# EAGLE library part VOCORE_SHIELD (library Vocore)
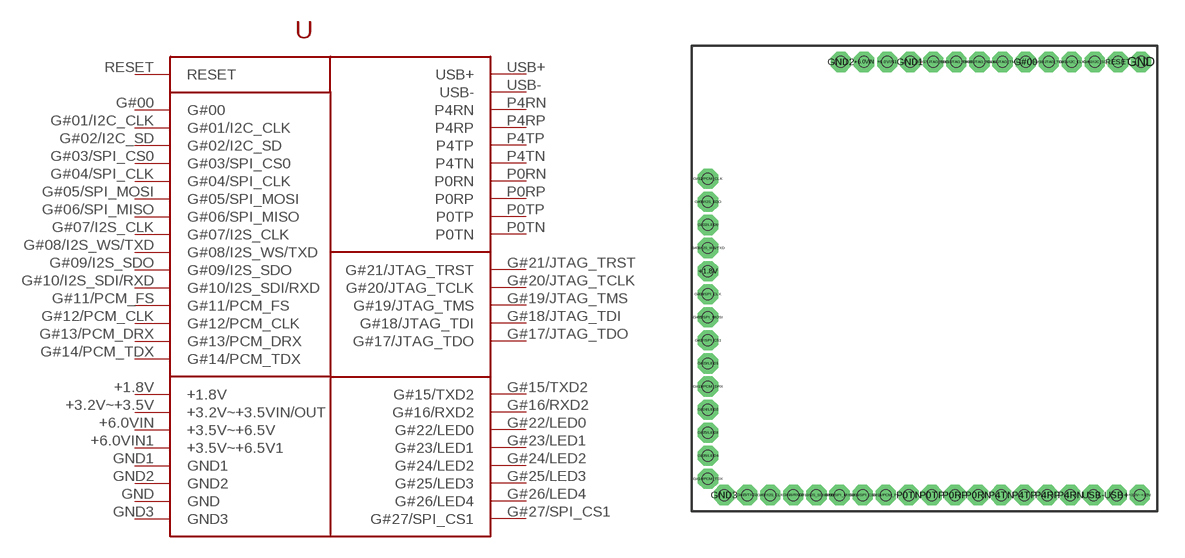
[diagram p0: symbol with the pads of VOCORE_DOC_CUSTOM; footprint VOCORE_DOC_CUSTOM]

Designator prefix -

## VOCORE_SHIELD  [VOCORE_DOC_CUSTOM]
+1.8V  +1.8V
+3.2V~+3.5V  +3.2V~+3.5VIN/OUT
+6.0VIN  +3.5V~+6.5V
+6.0VIN1  +3.5V~+6.5V1
G#00  G#00
G#01/I2C_CLK  G#01/I2C_CLK
G#02/I2C_SD  G#02/I2C_SD
G#03/SPI_CS0  G#03/SPI_CS0
G#04/SPI_CLK  G#04/SPI_CLK
G#05/SPI_MOSI  G#05/SPI_MOSI
G#06/SPI_MISO  G#06/SPI_MISO
G#07/I2S_CLK  G#07/I2S_CLK
G#08/I2S_WS/TXD  G#08/I2S_WS/TXD
G#09/I2S_SDO  G#09/I2S_SDO
G#10/I2S_SDI/RXD  G#10/I2S_SDI/RXD
G#11/PCM_FS  G#11/PCM_FS
G#12/PCM_CLK  G#12/PCM_CLK
G#13/PCM_DRX  G#13/PCM_DRX
G#14/PCM_TDX  G#14/PCM_TDX
G#15/TXD2  G#15/TXD2
G#16/RXD2  G#16/RXD2
G#17/JTAG_TDO  G#17/JTAG_TDO
G#18/JTAG_TDI  G#18/JTAG_TDI
G#19/JTAG_TMS  G#19/JTAG_TMS
G#20/JTAG_TCLK  G#20/JTAG_TCLK
G#21/JTAG_TRST  G#21/JTAG_TRST
G#22/LED0  G#22/LED0
G#23/LED1  G#23/LED1
G#24/LED2  G#24/LED2
G#25/LED3  G#25/LED3
G#26/LED4  G#26/LED4
G#27/SPI_CS1  G#27/SPI_CS1
GND  GND
GND1  GND1
GND2  GND2
GND3  GND3
P0RN  P0RN
P0RP  P0RP
P0TN  P0TN
P0TP  P0TP
P4RN  P4RN
P4RP  P4RP
P4TN  P4TN
P4TP  P4TP
RESET  RESET
USB+  USB+
USB-  USB-

## Footprint VOCORE_DOC_CUSTOM (pad centres in mm)
drill 0.6 pad 0.889 octagon: +1.8V 0.889,13.208; +3.2V~+3.5V 24.638,0.889; +6.0VIN 9.474,24.714; +6.0VIN1 10.744,24.714; G#00 18.364,24.714; G#01/I2C_CLK 20.904,24.714; G#02/I2C_SD 22.174,24.714; G#03/SPI_CS0 9.398,0.889; G#04/SPI_CLK 0.889,11.938; G#05/SPI_MOSI 0.889,10.668; G#06/SPI_MISO 8.128,0.889; G#07/I2S_CLK 4.318,0.889; G#08/I2S_WS/TXD 0.889,14.478; G#09/I2S_SDO 0.889,17.018; G#10/I2S_SDI/RXD 6.858,0.889; G#11/PCM_FS 10.668,0.889; G#12/PCM_CLK 0.889,18.288; G#13/PCM_DRX 0.889,6.858; G#14/PCM_TDX 0.889,1.778; G#15/TXD2 3.048,0.889; G#16/RXD2 5.588,0.889; G#17/JTAG_TDO 13.284,24.714; G#18/JTAG_TDI 19.634,24.714; G#19/JTAG_TMS 17.094,24.714; G#20/JTAG_TCLK 15.824,24.714; G#21/JTAG_TRST 14.554,24.714; G#22/LED0 0.889,15.748; G#23/LED1 0.889,8.128; G#24/LED2 0.889,5.588; G#25/LED3 0.889,4.318; G#26/LED4 0.889,3.048; G#27/SPI_CS1 0.889,9.398; GND 24.714,24.714; GND1 12.014,24.714; GND2 8.204,24.714; GND3 1.778,0.889; P0RN 15.748,0.889; P0RP 14.478,0.889; P0TN 11.938,0.889; P0TP 13.208,0.889; P4RN 20.828,0.889; P4RP 19.558,0.889; P4TN 17.018,0.889; P4TP 18.288,0.889; RESET 23.444,24.714; USB+ 23.368,0.889; USB- 22.098,0.889
hole 0.6 at 0.889,1.778
hole 0.6 at 0.889,3.048
hole 0.6 at 0.889,4.318
hole 0.6 at 0.889,5.588
hole 0.6 at 0.889,6.858
hole 0.6 at 0.889,8.128
hole 0.6 at 0.889,9.398
hole 0.6 at 0.889,10.668
hole 0.6 at 0.889,11.938
hole 0.6 at 0.889,13.208
hole 0.6 at 0.889,14.478
hole 0.6 at 0.889,15.748
hole 0.6 at 0.889,17.018
hole 0.6 at 0.889,18.288
hole 0.6 at 8.204,24.714
hole 0.6 at 24.714,24.714
hole 0.6 at 23.444,24.714
hole 0.6 at 22.174,24.714
hole 0.6 at 20.904,24.714
hole 0.6 at 19.634,24.714
hole 0.6 at 18.364,24.714
hole 0.6 at 17.094,24.714
hole 0.6 at 15.824,24.714
hole 0.6 at 14.554,24.714
hole 0.6 at 13.284,24.714
hole 0.6 at 12.014,24.714
hole 0.6 at 10.744,24.714
hole 0.6 at 9.474,24.714
hole 0.6 at 1.778,0.889
hole 0.6 at 18.288,0.889
hole 0.6 at 17.018,0.889
hole 0.6 at 15.748,0.889
hole 0.6 at 14.478,0.889
hole 0.6 at 13.208,0.889
hole 0.6 at 11.938,0.889
hole 0.6 at 10.668,0.889
hole 0.6 at 9.398,0.889
hole 0.6 at 8.128,0.889
hole 0.6 at 6.858,0.889
hole 0.6 at 5.588,0.889
hole 0.6 at 4.318,0.889
hole 0.6 at 3.048,0.889
hole 0.6 at 24.638,0.889
hole 0.6 at 23.368,0.889
hole 0.6 at 22.098,0.889
hole 0.6 at 20.828,0.889
hole 0.6 at 19.558,0.889